# Altium schematic symbol library PMEG4030ER-QX.SchLib: 1 symbol
Pins are listed as number, name and electrical type; pins without a type are passive.

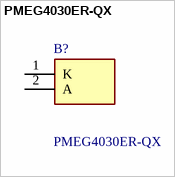
[diagram p0: symbol PMEG4030ER-QX]

## PMEG4030ER-QX
designator B?
Schottky Diodes & Rectifiers RECT 40V   3A    SM  SCHOTTKY; Manufacturer_Name: Nexperia; Geometry.Height: 1.1mm; Mouser Part Number: 771-PMEG4030ER-QX; Mouser Price/Stock: https://www.mouser.co.uk/ProductDetail/Nexperia/PMEG4030ER-QX?qs=e8oIoAS2J1S%2FszJOn2UcQA%3D%3D; Manufacturer_Part_Number: PMEG4030ER-QX; Datasheet Link: https://assets.nexperia.com/documents/data-sheet/PMEG4030ER-Q.pdf
footprint SODFL3517X110N
pins: 1 K, 2 A